# EAGLE library part FTDI-CON (library KnowledgeCentric)
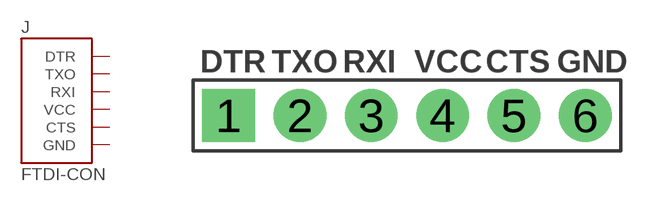
[diagram p3: symbol with the pads of FTDI-CON; footprint FTDI-CON]

Designator prefix J

## FTDI-CON  [FTDI-CON]
1  DTR
2  TXO
3  RXI
4  VCC
5  CTS
6  GND

## Footprint FTDI-CON (pad centres in mm)
drill 1.016 pad 1.88 square: 1 -6.35,0
drill 1.016 pad 1.88: 2 -3.81,0; 3 -1.27,0; 4 1.27,0; 5 3.81,0; 6 6.35,0